# Altium footprint library DISCRETE_T1.PcbLib: 293 footprints (part 15 of 19)
Each footprint in its own frame and in the unit in brackets; x right, y up, seen from the top. Pads: shape width x height; smd on the part's side, far side on the other; paste and mask are expansions set on the pad; w line width, h text height; cw(c..) or ccw(c..) is an arc to the next point about the centre after c.
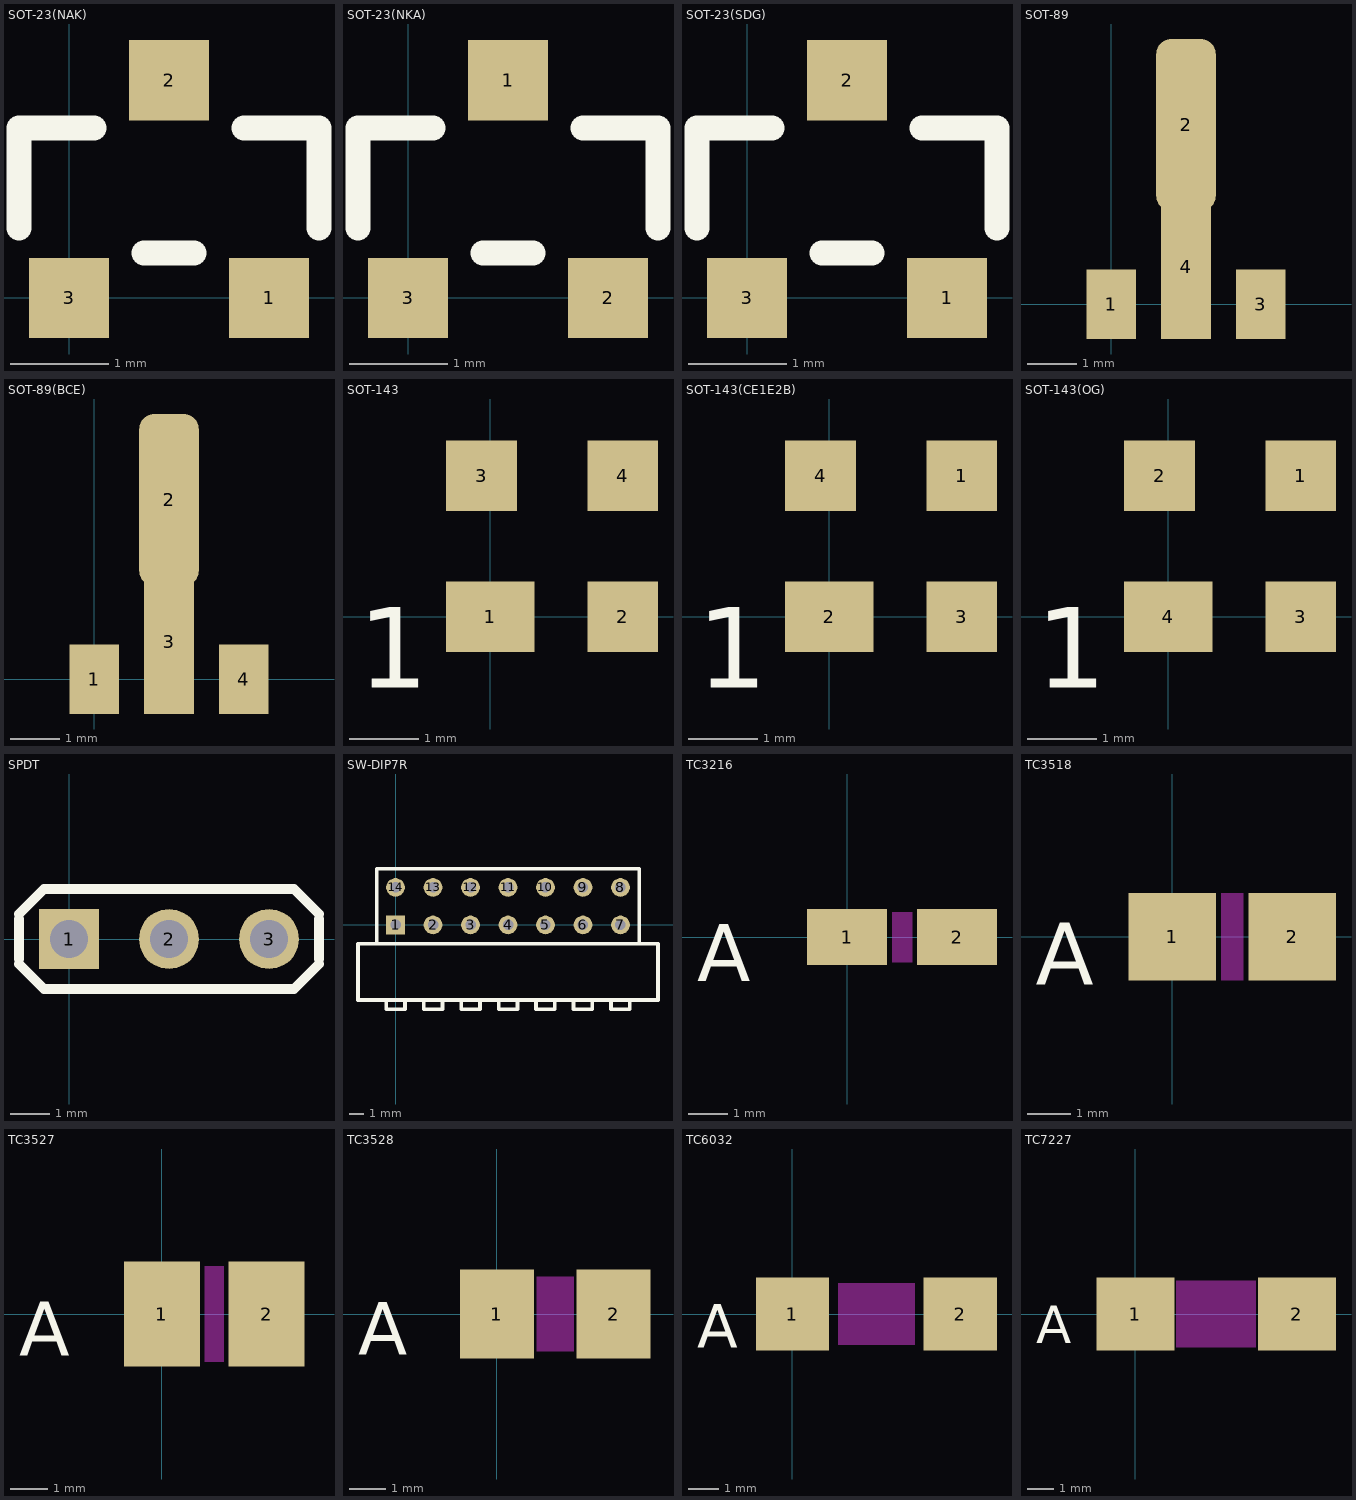
[diagram p14: the footprints below, top view; thin cyan lines are the x and y axes]

## SOT-23(NAK) [mil]
pads (3):
  rect 32x32 smd: 1(80,0) 2(40,87) 3(0,0)
Top Overlay:
  lines w10: -20,28 -20,68 10,68 ; 30,18 50,18 ; 70,68 100,68 100,28

## SOT-23(NKA) [mil]
pads (3):
  rect 32x32 smd: 1(40,87) 2(80,0) 3(0,0)
Top Overlay:
  lines w10: -20,28 -20,68 10,68 ; 30,18 50,18 ; 70,68 100,68 100,28

## SOT-23(SDG) [mil]
pads (3):
  rect 32x32 smd: 1(80,0) 2(40,87) 3(0,0)
Top Overlay:
  lines w10: -20,28 -20,68 10,68 ; 30,18 50,18 ; 70,68 100,68 100,28

## SOT-89 [mil]
pads (4):
  rect 40x56 smd: 1(0,0) 3(120,0)
  rrect50% 48x138 smd: 2(60,144)
  rect 40x116 smd: 4(60,30)

## SOT-89(BCE) [mil]
pads (4):
  rect 40x56 smd: 1(0,0) 4(120,0)
  rrect50% 48x138 smd: 2(60,144)
  rect 40x116 smd: 3(60,30)

## SOT-143 [mil]
pads (4):
  rect 50x40 smd: 1(0,0)
  rect 40x40 smd: 2(75,0) 3(-5,80) 4(75,80)
Top Overlay:
  text "1" at -75,-40 h45.62

## SOT-143(CE1E2B) [mil]
pads (4):
  rect 40x40 smd: 1(75,80) 3(75,0) 4(-5,80)
  rect 50x40 smd: 2(0,0)
Top Overlay:
  text "1" at -75,-40 h45.62

## SOT-143(OG) [mil]
pads (4):
  rect 40x40 smd: 1(75,80) 2(-5,80) 3(75,0)
  rect 50x40 smd: 4(0,0)
Top Overlay:
  text "1" at -75,-40 h45.62

## SPDT [mil]
pads (3):
  rect 60x60 hole 38: 1(0,0)
  round 60 hole 38: 2(100,0) 3(200,0)
Top Overlay:
  lines w10: -50,-25 -25,-50 225,-50 250,-25 ; -50,-20 -50,20 ; -50,25 -25,50 225,50 250,25 ; 250,-20 250,20

## SW-DIP7R [mil]
pads (14):
  rect 50x50 hole 28: 1(0,0)
  round 50 hole 28: 2(100,0) 3(200,0) 4(300,0) 5(400,0) 6(500,0) 7(600,0) 8(600,100) 9(500,100) 10(400,100) 11(300,100) 12(200,100) 13(100,100) 14(0,100)
Top Overlay:
  lines w10: -50,-50 -50,150 650,150 650,-50 ; -25,-200 -25,-225 25,-225 25,-200 ; 75,-200 75,-225 125,-225 125,-200 ; 175,-200 175,-225 225,-225 225,-200 ; 275,-200 275,-225 325,-225 325,-200 ; 375,-200 375,-225 425,-225 425,-200 ; 475,-200 475,-225 525,-225 525,-200 ; 575,-200 575,-225 625,-225 625,-200 ; -100,-200 700,-200 700,-50 -100,-50 -100,-200

## TC3216 [mil]
pads (2):
  rect 80x56 smd: 1(0,0) 2(110,0)
Top Overlay:
  text "A" at -150,-44 h56.88
Multi-Layer keep-out:
  region: 65,-25 65,25 45,25 45,-25

## TC3518 [mil]
pads (2):
  rect 80x80 smd: 1(0,0) 2(110,0)
Top Overlay:
  text "A" at -125,-44 h56.88
Multi-Layer keep-out:
  region: 65,-40 65,40 45,40 45,-40

## TC3527 [mil]
pads (2):
  rect 80x110 smd: 1(0,0) 2(110,0)
Top Overlay:
  text "A" at -150,-44 h56.88
Multi-Layer keep-out:
  region: 65,-50 65,50 45,50 45,-50

## TC3528 [mil]
pads (2):
  rect 80x96 smd: 1(0,0) 2(126,0)
Top Overlay:
  text "A" at -150,-44 h56.88
Multi-Layer keep-out:
  region: 83,-40 83,40 43,40 43,-40

## TC6032 [mil]
pads (2):
  rect 96x96 smd: 1(0,0) 2(220,0)
Top Overlay:
  text "A" at -125,-44 h56.88
Multi-Layer keep-out:
  region: 160,-40 160,40 60,40 60,-40

## TC7227 [mil]
pads (2):
  rect 118x110 smd: 1(0,0) 2(244,0)
Top Overlay:
  text "A" at -150,-44 h56.88
Multi-Layer keep-out:
  region: 182,-50 182,50 62,50 62,-50